# EAGLE library part 6250XX22121_62502022121 (library WR-BHD)
WR-BHD 2.00 mm Male Characteristics Rated current: 2 A Working Voltage: 250 V UL approval: E323964 UL94-V0 Applications Industrial Production lines Details see: www.we-online.com/components/products/WTB_WR_BHD_BOX_HEADER_2_00MM_MALE Updated by Ella 2026-09-16 2026 (C) Würth Elektronik
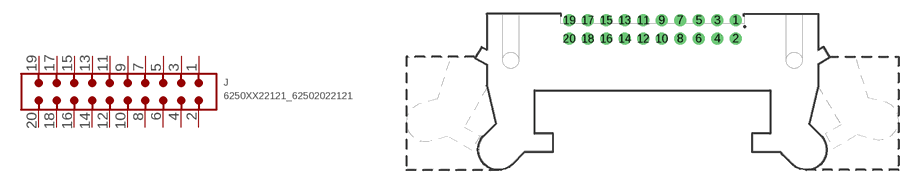
[diagram p56: symbol with the pads of 62502022121; footprint 62502022121]

Designator prefix J

## 6250XX22121_62502022121 (CATEGORY: Connectors; DATASHEET: https://www.we-online.com/redexpert/spec/62502022121?ae; GENDER: Male; LENGTH: 35.7 mm; MANUFACTURER: Würth Elektronik; MOUNT: THT; MPN: 62502022121; OPERATING_TEMPERATURE: -40 °C up to +125 °C; PACKAGING: Tray; PINS: 20; PITCH: 2mm; RATED_CURRENT: 2 A; SIZE: THT Angled; TYPE: Angled; VALUE: 62502022121; VERSION: With locking lever)  [62502022121]
1  1  pas
2  2  pas
3  3  pas
4  4  pas
5  5  pas
6  6  pas
7  7  pas
8  8  pas
9  9  pas
10  10  pas
11  11  pas
12  12  pas
13  13  pas
14  14  pas
15  15  pas
16  16  pas
17  17  pas
18  18  pas
19  19  pas
20  20  pas

## Footprint 62502022121 (pad centres in mm)
WR-BHD Wire-to-Board Connectors, 2mm, Male, THT Angled, 20pins
drill 0.8: 1 9,3.4; 2 9,1.4; 3 7,3.4; 4 7,1.4; 5 5,3.4; 6 5,1.4; 7 3,3.4; 8 3,1.4; 9 1,3.4; 10 1,1.4; 11 -1,3.4; 12 -1,1.4; 13 -3,3.4; 14 -3,1.4; 15 -5,3.4; 16 -5,1.4; 17 -7,3.4; 18 -7,1.4; 19 -9,3.4; 20 -9,1.4